# EAGLE library part TL092_JFET_OP-AMP (library Tristan+Robitaille's+Library)
TL092 DUAL JFET-INPUT OPERATIONAL AMPLIFIER Technical specifications: Supply voltage range: 3V to 36V (single or dual) Input impedance: 1012Ω Input offset current: 50pA Input bias current: 200pA Datasheet <http://www.ti.com/lit/ds/symlink/tl092.pdf> Digi-Key part #: 296-7215-1-ND <http://www.digikey.ca/product-detail/en/texas-instruments/TL092CPSR/296-7215-1-ND/378286> Mouser part #: 595-TL092CPSR <http://ca.mouser.com/ProductDetail/Texas-Instruments/TL092CPSR/?qs=%2fha2pyFadugVx6kk4eu4%2fNEGMaFHhfU24SL0TBz3BU8%3d> Manufacturer part #: TL092CPSR
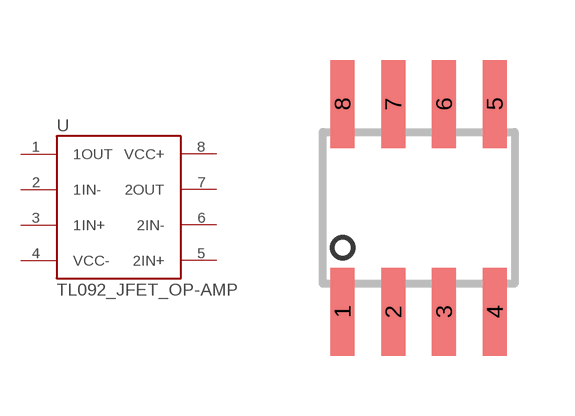
[diagram p15: symbol with the pads of SO-08; footprint SO-08]

Designator prefix U

## TL092_JFET_OP-AMP  [SO-08]
1  1OUT  out
2  1IN-  in
3  1IN+  in
4  VCC-  pwr
5  2IN+  in
6  2IN-  in
7  2OUT  out
8  VCC+  pwr

## Footprint SO-08 (pad centres in mm)
D (R-PDSO-G8) Plastic Small Outline Package Source: http://focus.ti.com/lit/ds/symlink/sn65als176.pdf
smd 0.6 x 2.2: 1 -1.905,-2.6; 2 -0.635,-2.6; 3 0.635,-2.6; 4 1.905,-2.6; 5 1.905,2.6; 6 0.635,2.6; 7 -0.635,2.6; 8 -1.905,2.6